# Altium footprint library Terminals.PcbLib: 18 footprints (part 1 of 2)
Each footprint in its own frame and in the unit in brackets; x right, y up, seen from the top. Pads: shape width x height; smd on the part's side, far side on the other; paste and mask are expansions set on the pad; w line width, h text height; cw(c..) or ccw(c..) is an arc to the next point about the centre after c.
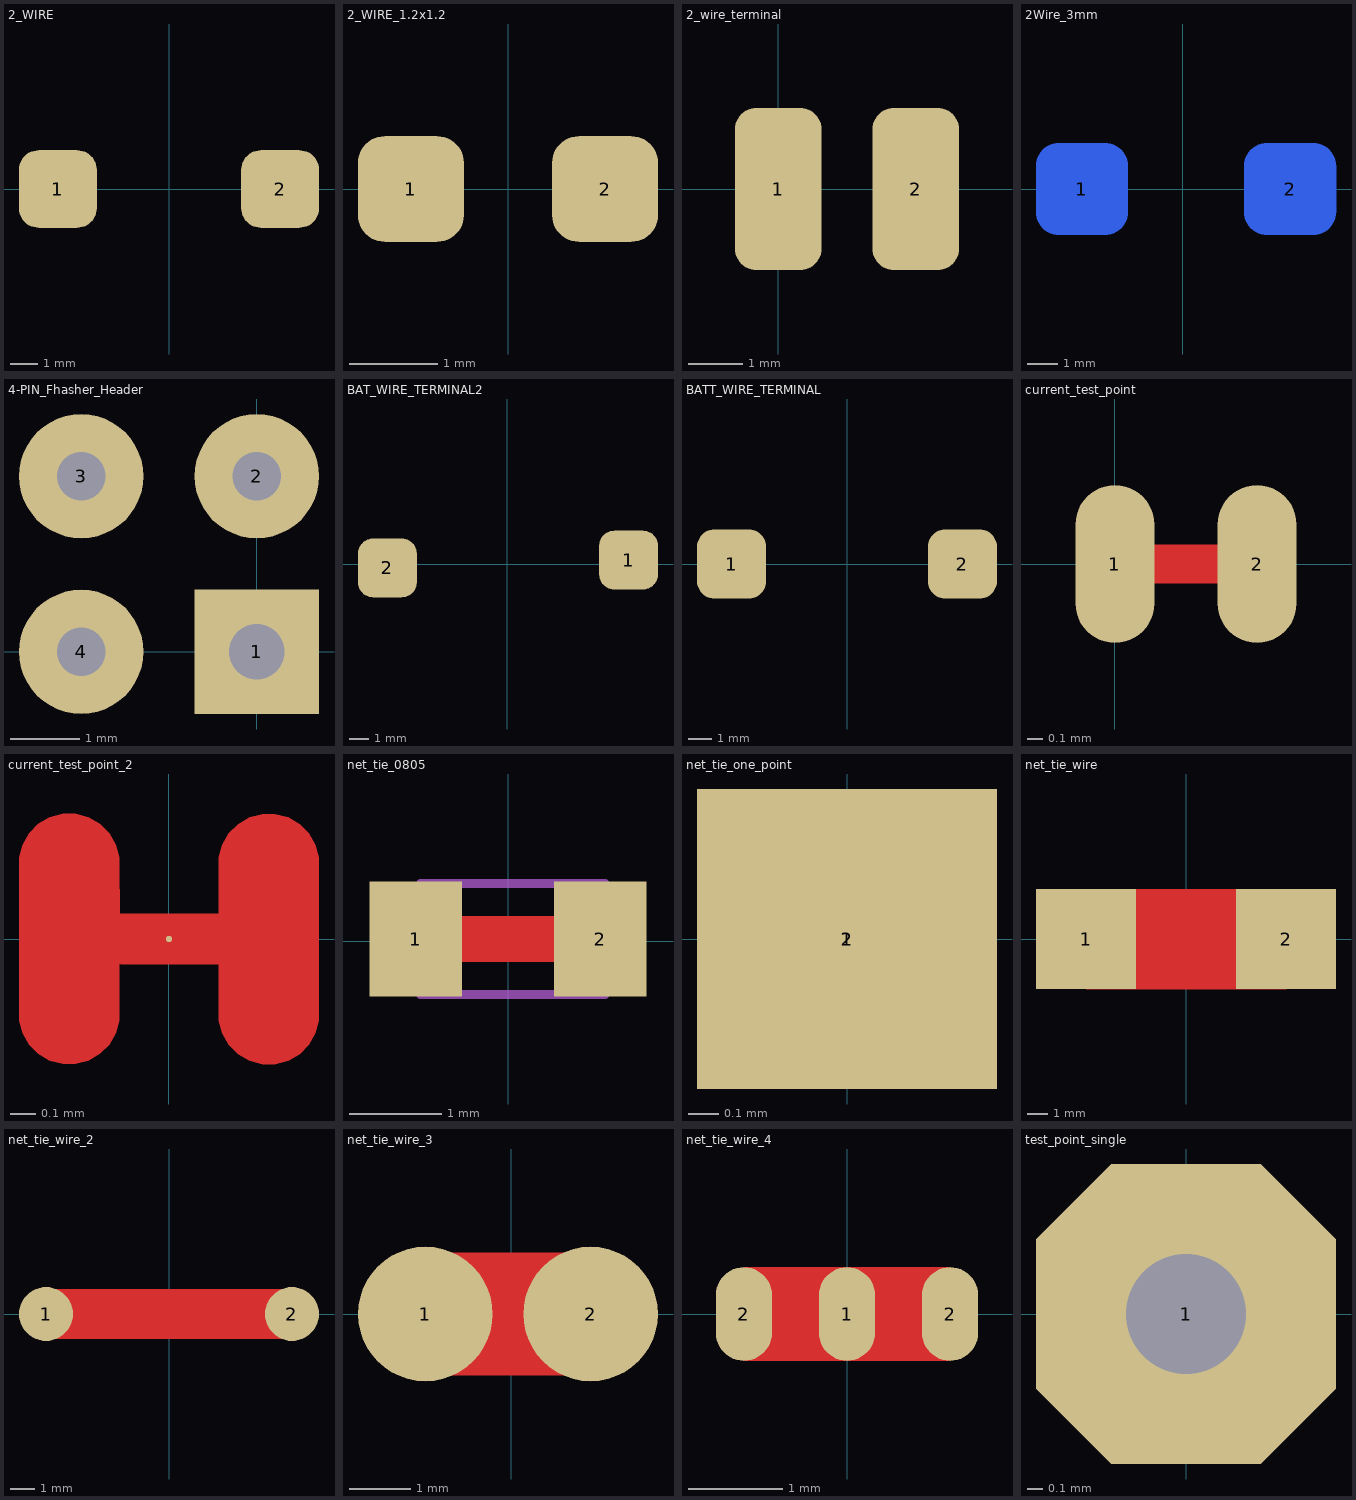
[diagram p0: the footprints below, top view; thin cyan lines are the x and y axes]

## 2_WIRE [mm] "simple two pads for hand welding"
pads (2):
  rrect50% 2.8x2.8 smd: 1(-4,0) 2(4,0)

## 2_WIRE_1.2x1.2 [mm] "simple two pads for hand welding"
pads (2):
  rrect50% 1.2x1.2 smd: 1(-1.1,0) 2(1.1,0)

## 2_wire_terminal [mm] "2.54 mm step simple terminal. / Can be used with wire or PLS-2"
pads (2):
  rrect50% 1.6x3 smd: 1(0,0) 2(2.54,0)

## 2Wire_3mm [mm] "Especially for the P2 project"
pads (2):
  rrect50% 3x3 smd far side: 1(-3.3,0) 2(3.5,0)

## 4-PIN_Fhasher_Header [mm]
pads (4):
  rect 1.8x1.8 hole 0.8: 1(0,0)
  round 1.8 hole 0.7: 2(0,2.54) 3(-2.54,2.54) 4(-2.54,0)

## BAT_WIRE_TERMINAL2 [mm] "Especially for the P2 project"
pads (2):
  rrect50% 3x3 smd: 1(6.2,0.2) 2(-6.1,-0.2)

## BATT_WIRE_TERMINAL [mm] "Use for handly weild battery"
pads (2):
  rrect50% 3x3 smd: 1(-5,0) 2(5,0)

## current_test_point [mm]
pads (2):
  oval 0.5x1 smd: 1(0,0) 2(0.9,0)
Top Layer:
  lines w0.25: 0,0 0.9,0
Top Solder:
  region: 0,0.6 0,-0.6 0.9,-0.6 0.9,0.6

## current_test_point_2 [mil] "As one pad"
pads (1):
  round 1 smd: 1(0,0)
Top Layer:
  region: -23.6,-11.8 -23.6,11.82 -23.6,12.85 -23.06,14.86 -22.03,16.65 -20.56,18.12 -18.77,19.15 -16.76,19.69 -14.69,19.69 -12.69,19.15 -10.89,18.12 -9.43,16.65 -8.39,14.86 -7.85,12.85 -7.85,11.82 -7.76,3.97 -7.76,3.96 7.83,3.96 7.85,11.8 7.85,12.84 8.39,14.84 9.43,16.64 10.89,18.11 12.69,19.14 14.69,19.68 16.76,19.68 18.77,19.14 20.56,18.11 22.03,16.64 23.06,14.84 23.6,12.84 23.6,11.8 23.6,-11.82 23.6,-12.85 23.06,-14.86 22.03,-16.65 20.56,-18.12 18.77,-19.15 16.76,-19.69 14.69,-19.69 12.69,-19.15 10.89,-18.12 9.43,-16.65 8.39,-14.86 7.85,-12.85 7.85,-11.82 7.85,-3.94 -7.62,-3.94 -7.85,-3.93 -7.85,-11.8 -7.85,-12.84 -8.39,-14.84 -9.43,-16.64 -10.89,-18.11 -12.69,-19.14 -14.69,-19.68 -16.76,-19.68 -18.77,-19.14 -20.56,-18.11 -22.03,-16.64 -23.06,-14.84 -23.6,-12.84
Top Solder:
  region: -15.75,23.62 -15.75,-23.62 15.75,-23.62 15.75,23.62

## net_tie_0805 [mm]
pads (2):
  rect 1x1.25 smd: 1(-1,0.025) 2(1,0.025)
Top Layer:
  lines w0.5: -1,0.025 1,0.025
Mechanical 1:
  lines w0.1: -0.949,-0.575 -0.949,0.625 1.05,0.625 1.05,-0.575 -0.949,-0.575

## net_tie_one_point [mm]
pads (2):
  rect 1x1 smd: 1(0,0) 2(0,0)

## net_tie_wire [mm]
pads (2):
  rect 5x5 smd: 1(-5,0) 2(5,0)
Top Layer:
  region: -5,-2.5 -5,2.5 5,2.5 5,-2.5

## net_tie_wire_2 [mm]
pads (2):
  round 2.2 smd: 1(-5,0) 2(5,0)
Top Layer:
  region: -5,-1 -5,1 5,1 5,-1

## net_tie_wire_3 [mm]
pads (2):
  round 2.2 smd: 1(-1.4,0) 2(1.3,0)
Top Layer:
  region: -1.1,-1 -1.1,1 0.9,1 0.9,-1

## net_tie_wire_4 [mm]
pads (3):
  oval 0.6x1 smd: 1(0,0) 2(-1.1,0) 2(1.1,0)
Top Layer:
  region: 0,-0.5 0,0.5 1.1,0.5 1.1,-0.5
  region: -1.1,-0.5 -1.1,0.5 0,0.5 0,-0.5

## test_point_single [mm]
pads (1):
  oct 2x2 hole 0.8: 1(0,0)
3D body "PLS-1.step": height 8.6, standoff -3, extent -1.27,-1.27 1.27,1.27